# EAGLE library part TSC_1FORMC (library CodeShield Parts)
Tyco Electronics TSC-series relay. 1 FORM C topology; ON-(ON)
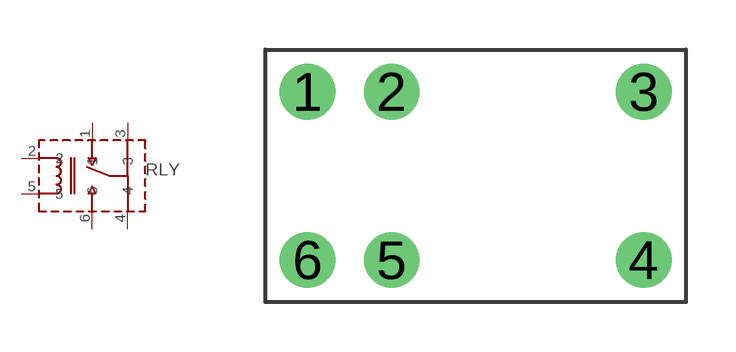
[diagram p0: symbol with the pads of TSC_RELAY; footprint TSC_RELAY]

Designator prefix RLY

## TSC_1FORMC  [TSC_RELAY]
1  1
2  2
3  3
4  4
5  5
6  6

## Footprint TSC_RELAY (pad centres in mm)
drill 0.8 pad 1.676 round: 1 -5.08,2.54; 2 -2.54,2.54; 3 5.08,2.54; 4 5.08,-2.54; 5 -2.54,-2.54; 6 -5.08,-2.54